# Altium footprint library TF45-30S-0.5SH(800).PcbLib: 2 footprints
Each footprint in its own frame and in the unit in brackets; x right, y up, seen from the top. Pads: shape width x height; smd on the part's side, far side on the other; paste and mask are expansions set on the pad; w line width, h text height; cw(c..) or ccw(c..) is an arc to the next point about the centre after c.
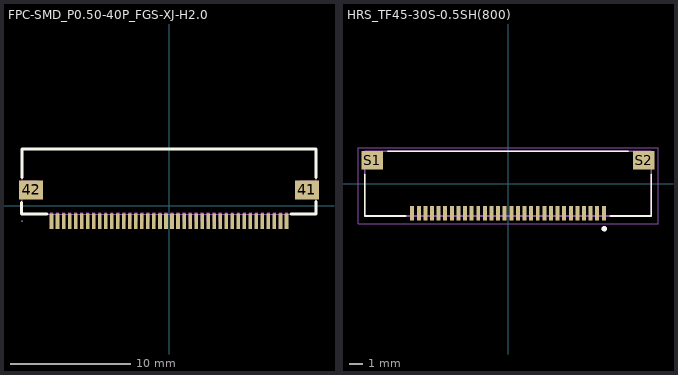
[diagram p0: the footprints below, top view; thin cyan lines are the x and y axes]

## FPC-SMD_P0.50-40P_FGS-XJ-H2.0 [mm]
pads (42):
  rect 0.3x1.3 smd paste+0 mask+0.05: 1(-9.75,-1.3) 2(-9.25,-1.3) 3(-8.75,-1.3) 4(-8.25,-1.3) 5(-7.75,-1.3) 6(-7.25,-1.3) 7(-6.75,-1.3) 8(-6.25,-1.3) 9(-5.75,-1.3) 10(-5.25,-1.3) 11(-4.75,-1.3) 12(-4.25,-1.3) 13(-3.75,-1.3) 14(-3.25,-1.3) 15(-2.75,-1.3) 16(-2.25,-1.3) 17(-1.75,-1.3) 18(-1.25,-1.3) 19(-0.75,-1.3) 20(-0.25,-1.3) 21(0.25,-1.3) 22(0.75,-1.3) 23(1.25,-1.3) 24(1.75,-1.3) 25(2.25,-1.3) 26(2.75,-1.3) 27(3.25,-1.3) 28(3.75,-1.3) 29(4.25,-1.3) 30(4.75,-1.3) 31(5.25,-1.3) 32(5.75,-1.3) 33(6.25,-1.3) 34(6.75,-1.3) 35(7.25,-1.3) 36(7.75,-1.3) 37(8.25,-1.3) 38(8.75,-1.3) 39(9.25,-1.3) 40(9.75,-1.3)
  rect 2x1.6 smd mask+0.102: 41(11.45,1.3) 42(-11.45,1.3)
Top Overlay:
  lines w0.254: -12.25,0.269 -12.25,-0.7 -10.126,-0.7 ; -12.2,2.331 -12.2,4.7 12.2,4.7 12.2,2.331 ; 10.126,-0.7 12.2,-0.7 12.2,0.35
Mechanical 15:
  drawing of 49 lines, arcs and shapes, not listed
3D body "User Library-FPC0_5MM2_0H40P.SLDPRT": height 2.51, standoff -0.04, extent -12.45,-1.778 12.45,5.422

## HRS_TF45-30S-0.5SH(800) [mm]
pads (32):
  rect 0.3x1.1 smd: 1(7.25,-2.25) 2(6.75,-2.25) 3(6.25,-2.25) 4(5.75,-2.25) 5(5.25,-2.25) 6(4.75,-2.25) 7(4.25,-2.25) 8(3.75,-2.25) 9(3.25,-2.25) 10(2.75,-2.25) 11(2.25,-2.25) 12(1.75,-2.25) 13(1.25,-2.25) 14(0.75,-2.25) 15(0.25,-2.25) 16(-0.25,-2.25) 17(-0.75,-2.25) 18(-1.25,-2.25) 19(-1.75,-2.25) 20(-2.25,-2.25) 21(-2.75,-2.25) 22(-3.25,-2.25) 23(-3.75,-2.25) 24(-4.25,-2.25) 25(-4.75,-2.25) 26(-5.25,-2.25) 27(-5.75,-2.25) 28(-6.25,-2.25) 29(-6.75,-2.25) 30(-7.25,-2.25)
  rect 1.65x1.4 smd: S1(-10.275,1.75) S2(10.275,1.75)
Top Overlay:
  circle w0.2: c7.29,-3.415 r0.1
  lines w0.127: -10.85,0.7 -10.85,-2.45 -7.75,-2.45 ; -9.1,2.45 9.1,2.45 ; 7.75,-2.45 10.85,-2.45 10.85,0.7
Mechanical 13:
  circle w0.2: c7.29,-3.415 r0.1
  lines w0.127: -10.85,-2.45 10.85,-2.45 10.85,2.45 -10.85,2.45 -10.85,-2.45
Mechanical 15:
  lines w0.05: -11.35,-3.05 11.35,-3.05 11.35,2.7 -11.35,2.7 -11.35,-3.05